# Altium footprint library conn_sw.PCBLIB: 173 footprints (part 3 of 11)
Each footprint in its own frame and in the unit in brackets; x right, y up, seen from the top. Pads: shape width x height; smd on the part's side, far side on the other; paste and mask are expansions set on the pad; w line width, h text height; cw(c..) or ccw(c..) is an arc to the next point about the centre after c.
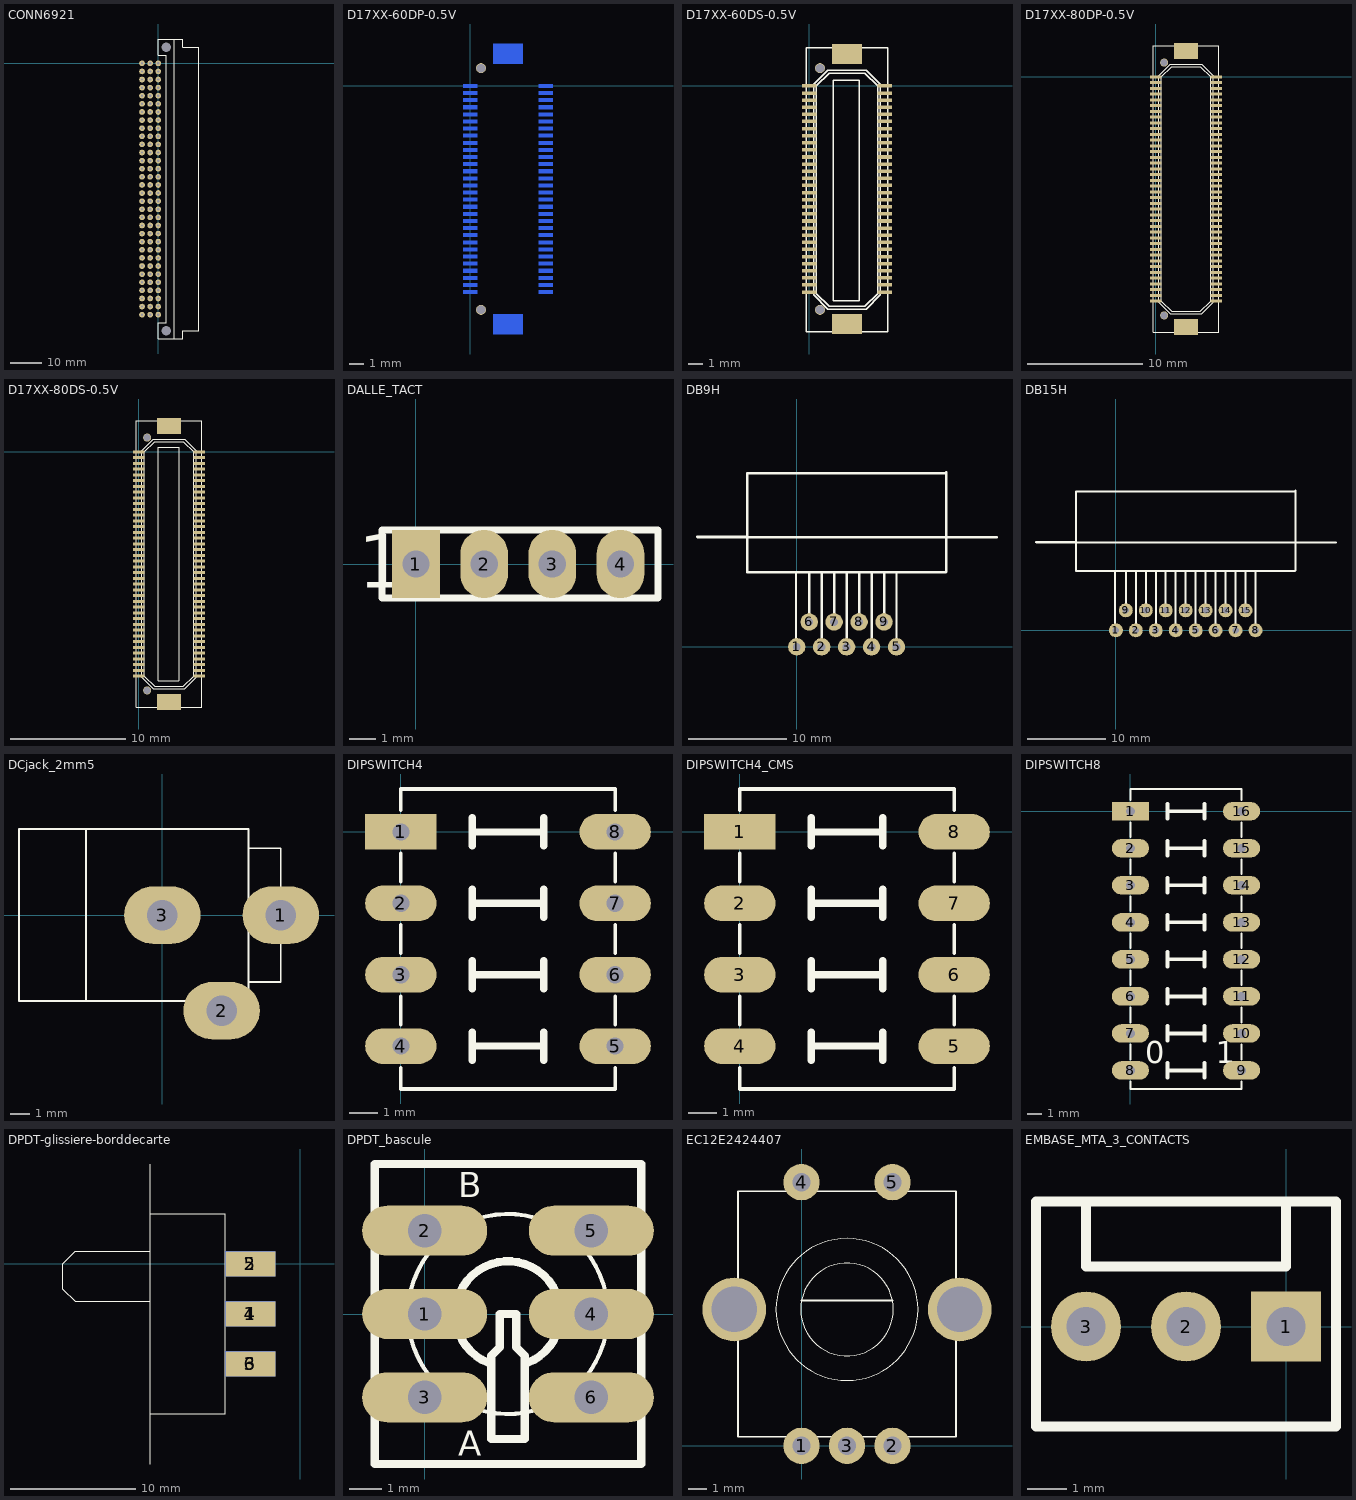
[diagram p2: the footprints below, top view; thin cyan lines are the x and y axes]

## CONN6921 [mil]
pads (98):
  round 70 hole 28: 1A(0,0) 1B(-100,0) 1C(-200,0) 2A(0,-100) 2B(-100,-100) 2C(-200,-100) 3A(0,-200) 3B(-100,-200) 3C(-200,-200) 4A(0,-300) 4B(-100,-300) 4C(-200,-300) 5A(0,-400) 5B(-100,-400) 5C(-200,-400) 6A(0,-500) 6B(-100,-500) 6C(-200,-500) 7A(0,-600) 7B(-100,-600) 7C(-200,-600) 8A(0,-700) 8B(-100,-700) 8C(-200,-700) 9A(0,-800) 9B(-100,-800) 9C(-200,-800) 10A(0,-900) 10B(-100,-900) 10C(-200,-900) 11A(0,-1000) 11B(-100,-1000) 11C(-200,-1000) 12A(0,-1100) 12B(-100,-1100) 12C(-200,-1100) 13A(0,-1200) 13B(-100,-1200) 13C(-200,-1200) 14A(0,-1300) 14B(-100,-1300) 14C(-200,-1300) 15A(0,-1400) 15B(-100,-1400) 15C(-200,-1400) 16A(0,-1500) 16B(-100,-1500) 16C(-200,-1500) 17A(0,-1600) 17B(-100,-1600) 17C(-200,-1600) 18A(0,-1700) 18B(-100,-1700) 18C(-200,-1700) 19A(0,-1800) 19B(-100,-1800) 19C(-200,-1800) 20A(0,-1900) 20B(-100,-1900) 20C(-200,-1900) 21A(0,-2000) 21B(-100,-2000) 21C(-200,-2000) 22A(0,-2100) 22B(-100,-2100) 22C(-200,-2100) 23A(0,-2200) 23B(-100,-2200) 23C(-200,-2200) 24A(0,-2300) 24B(-100,-2300) 24C(-200,-2300) 25A(0,-2400) 25B(-100,-2400) 25C(-200,-2400) 26A(0,-2500) 26B(-100,-2500) 26C(-200,-2500) 27A(0,-2600) 27B(-100,-2600) 27C(-200,-2600) 28A(0,-2700) 28B(-100,-2700) 28C(-200,-2700) 29A(0,-2800) 29B(-100,-2800) 29C(-200,-2800) 30A(0,-2900) 30B(-100,-2900) 30C(-200,-2900) 31A(0,-3000) 31B(-100,-3000) 31C(-200,-3000) 32A(0,-3100) 32B(-100,-3100) 32C(-200,-3100)
  round 70 hole 118: ""(100,-3300) ""(100,200)
Top Overlay:
  lines w10: 200,-3400 300,-3400 300,-3300 500,-3300 500,200 300,200 300,300 200,300 ; 200,-3400 200,-3300 200,300 ; 200,-3400 0,-3400 0,-3200 100,-3200 100,100 0,100 0,300 200,300

## D17XX-60DP-0.5V [mm]
pads (64):
  rect 1x0.25 smd far side: 1(0,0) 2(0,-0.5) 3(0,-1) 4(0,-1.5) 5(0,-2) 6(0,-2.5) 7(0,-3) 8(0,-3.5) 9(0,-4) 10(0,-4.5) 11(0,-5) 12(0,-5.5) 13(0,-6) 14(0,-6.5) 15(0,-7) 16(0,-7.5) 17(0,-8) 18(0,-8.5) 19(0,-9) 20(0,-9.5) 21(0,-10) 22(0,-10.5) 23(0,-11) 24(0,-11.5) 25(0,-12) 26(0,-12.5) 27(0,-13) 28(0,-13.5) 29(0,-14) 30(0,-14.5) 31(5.3,-14.5) 32(5.3,-14) 33(5.3,-13.5) 34(5.3,-13) 35(5.3,-12.5) 36(5.3,-12) 37(5.3,-11.5) 38(5.3,-11) 39(5.3,-10.5) 40(5.3,-10) 41(5.3,-9.5) 42(5.3,-9) 43(5.3,-8.5) 44(5.3,-8) 45(5.3,-7.5) 46(5.3,-7) 47(5.3,-6.5) 48(5.3,-6) 49(5.3,-5.5) 50(5.3,-5) 51(5.3,-4.5) 52(5.3,-4) 53(5.3,-3.5) 54(5.3,-3) 55(5.3,-2.5) 56(5.3,-2) 57(5.3,-1.5) 58(5.3,-1) 59(5.3,-0.5) 60(5.3,0)
  round 0.7 hole 0.6: ""(0.75,-15.75) ""(0.75,1.25)
  rect 2.1x1.4 smd far side: ""(2.65,-16.75) ""(2.65,2.25)
Bottom Overlay:
  lines w0.1: -0.2,-17.3 -0.2,2.7 5.5,2.7 5.5,-17.3 -0.2,-17.3 ; 0.3,-14.7 0.3,0.1 1.3,1.1 4,1.1 5,0.1 5,-14.7 4,-15.7 1.3,-15.7 0.3,-14.7 ; 0.5,-14.6 0.5,0 1.4,0.9 3.9,0.9 4.8,0 4.8,-14.6 3.9,-15.5 1.4,-15.5 0.5,-14.6

## D17XX-60DS-0.5V [mm]
pads (64):
  rect 1x0.25 smd: 1(0,0) 2(0,-0.5) 3(0,-1) 4(0,-1.5) 5(0,-2) 6(0,-2.5) 7(0,-3) 8(0,-3.5) 9(0,-4) 10(0,-4.5) 11(0,-5) 12(0,-5.5) 13(0,-6) 14(0,-6.5) 15(0,-7) 16(0,-7.5) 17(0,-8) 18(0,-8.5) 19(0,-9) 20(0,-9.5) 21(0,-10) 22(0,-10.5) 23(0,-11) 24(0,-11.5) 25(0,-12) 26(0,-12.5) 27(0,-13) 28(0,-13.5) 29(0,-14) 30(0,-14.5) 31(5.3,-14.5) 32(5.3,-14) 33(5.3,-13.5) 34(5.3,-13) 35(5.3,-12.5) 36(5.3,-12) 37(5.3,-11.5) 38(5.3,-11) 39(5.3,-10.5) 40(5.3,-10) 41(5.3,-9.5) 42(5.3,-9) 43(5.3,-8.5) 44(5.3,-8) 45(5.3,-7.5) 46(5.3,-7) 47(5.3,-6.5) 48(5.3,-6) 49(5.3,-5.5) 50(5.3,-5) 51(5.3,-4.5) 52(5.3,-4) 53(5.3,-3.5) 54(5.3,-3) 55(5.3,-2.5) 56(5.3,-2) 57(5.3,-1.5) 58(5.3,-1) 59(5.3,-0.5) 60(5.3,0)
  round 0.7 hole 0.6: ""(0.75,-15.75) ""(0.75,1.25)
  rect 2.1x1.4 smd: ""(2.65,-16.75) ""(2.65,2.25)
Top Overlay:
  lines w0.1: -0.2,-17.3 -0.2,2.7 5.5,2.7 5.5,-17.3 -0.2,-17.3 ; 0.3,-14.7 0.3,0.1 1.3,1.1 4,1.1 5,0.1 5,-14.7 4,-15.7 1.3,-15.7 0.3,-14.7 ; 0.5,-14.6 0.5,0 1.4,0.9 3.9,0.9 4.8,0 4.8,-14.6 3.9,-15.5 1.4,-15.5 0.5,-14.6 ; 1.7,-15.1 1.7,0.4 3.5,0.4 3.5,-15.1 1.7,-15.1

## D17XX-80DP-0.5V [mm]
pads (84):
  rect 1x0.25 smd: 1(0,0) 2(0,-0.5) 3(0,-1) 4(0,-1.5) 5(0,-2) 6(0,-2.5) 7(0,-3) 8(0,-3.5) 9(0,-4) 10(0,-4.5) 11(0,-5) 12(0,-5.5) 13(0,-6) 14(0,-6.5) 15(0,-7) 16(0,-7.5) 17(0,-8) 18(0,-8.5) 19(0,-9) 20(0,-9.5) 21(0,-10) 22(0,-10.5) 23(0,-11) 24(0,-11.5) 25(0,-12) 26(0,-12.5) 27(0,-13) 28(0,-13.5) 29(0,-14) 30(0,-14.5) 31(0,-15) 32(0,-15.5) 33(0,-16) 34(0,-16.5) 35(0,-17) 36(0,-17.5) 37(0,-18) 38(0,-18.5) 39(0,-19) 40(0,-19.5) 41(5.3,-19.5) 42(5.3,-19) 43(5.3,-18.5) 44(5.3,-18) 45(5.3,-17.5) 46(5.3,-17) 47(5.3,-16.5) 48(5.3,-16) 49(5.3,-15.5) 50(5.3,-15) 51(5.3,-14.5) 52(5.3,-14) 53(5.3,-13.5) 54(5.3,-13) 55(5.3,-12.5) 56(5.3,-12) 57(5.3,-11.5) 58(5.3,-11) 59(5.3,-10.5) 60(5.3,-10) 61(5.3,-9.5) 62(5.3,-9) 63(5.3,-8.5) 64(5.3,-8) 65(5.3,-7.5) 66(5.3,-7) 67(5.3,-6.5) 68(5.3,-6) 69(5.3,-5.5) 70(5.3,-5) 71(5.3,-4.5) 72(5.3,-4) 73(5.3,-3.5) 74(5.3,-3) 75(5.3,-2.5) 76(5.3,-2) 77(5.3,-1.5) 78(5.3,-1) 79(5.3,-0.5) 80(5.3,0)
  round 0.7 hole 0.6: ""(0.75,-20.75) ""(0.75,1.25)
  rect 2.1x1.4 smd: ""(2.65,-21.75) ""(2.65,2.25)
Top Overlay:
  lines w0.1: -0.2,-22.2 5.5,-22.2 5.5,2.7 -0.2,2.7 -0.2,-22.2 ; 0.3,-19.6 1.3,-20.6 4,-20.6 5,-19.6 5,0.1 4,1.1 1.3,1.1 0.3,0.1 0.3,-19.6 ; 0.5,-19.5 1.4,-20.4 3.9,-20.4 4.8,-19.5 4.8,0 3.9,0.9 1.4,0.9 0.5,0 0.5,-19.5

## D17XX-80DS-0.5V [mm]
pads (84):
  rect 1x0.25 smd: 1(0,0) 2(0,-0.5) 3(0,-1) 4(0,-1.5) 5(0,-2) 6(0,-2.5) 7(0,-3) 8(0,-3.5) 9(0,-4) 10(0,-4.5) 11(0,-5) 12(0,-5.5) 13(0,-6) 14(0,-6.5) 15(0,-7) 16(0,-7.5) 17(0,-8) 18(0,-8.5) 19(0,-9) 20(0,-9.5) 21(0,-10) 22(0,-10.5) 23(0,-11) 24(0,-11.5) 25(0,-12) 26(0,-12.5) 27(0,-13) 28(0,-13.5) 29(0,-14) 30(0,-14.5) 31(0,-15) 32(0,-15.5) 33(0,-16) 34(0,-16.5) 35(0,-17) 36(0,-17.5) 37(0,-18) 38(0,-18.5) 39(0,-19) 40(0,-19.5) 41(5.3,-19.5) 42(5.3,-19) 43(5.3,-18.5) 44(5.3,-18) 45(5.3,-17.5) 46(5.3,-17) 47(5.3,-16.5) 48(5.3,-16) 49(5.3,-15.5) 50(5.3,-15) 51(5.3,-14.5) 52(5.3,-14) 53(5.3,-13.5) 54(5.3,-13) 55(5.3,-12.5) 56(5.3,-12) 57(5.3,-11.5) 58(5.3,-11) 59(5.3,-10.5) 60(5.3,-10) 61(5.3,-9.5) 62(5.3,-9) 63(5.3,-8.5) 64(5.3,-8) 65(5.3,-7.5) 66(5.3,-7) 67(5.3,-6.5) 68(5.3,-6) 69(5.3,-5.5) 70(5.3,-5) 71(5.3,-4.5) 72(5.3,-4) 73(5.3,-3.5) 74(5.3,-3) 75(5.3,-2.5) 76(5.3,-2) 77(5.3,-1.5) 78(5.3,-1) 79(5.3,-0.5) 80(5.3,0)
  round 0.7 hole 0.6: ""(0.75,-20.75) ""(0.75,1.25)
  rect 2.1x1.4 smd: ""(2.65,-21.75) ""(2.65,2.25)
Top Overlay:
  lines w0.1: -0.2,-22.2 -0.2,2.7 5.5,2.7 5.5,-22.2 -0.2,-22.2 ; 0.3,-19.6 0.3,0.1 1.3,1.1 4,1.1 5,0.1 5,-19.6 4,-20.6 1.3,-20.6 0.3,-19.6 ; 0.5,-19.5 0.5,0 1.4,0.9 3.9,0.9 4.8,0 4.8,-19.5 3.9,-20.4 1.4,-20.4 0.5,-19.5 ; 1.7,-19.9 1.7,0.4 3.5,0.4 3.5,-19.9 1.7,-19.9

## DALLE_TACT [mil]
pads (4):
  rect 70x100 hole 40: 1(0,0)
  oval 70x100 hole 40: 2(100,0) 3(200,0) 4(300,0)
Top Overlay:
  lines w10: 30,-50 355,-50 355,50 -50,50 -50,-50 40,-50
  text "1" at -85,-35 h78.74

## DB9H [mil]
pads (9):
  round 70 hole 32: 1(0,0) 2(100,0) 3(200,0) 4(300,0) 5(400,0) 6(50,100) 7(150,100) 8(250,100) 9(350,100)
Top Overlay:
  lines w10: -199,442 -400,442 -397,439 803,439 ; -101,298 499,298 598,298 ; -70,298 -199,298 -199,696 597,696 ; -3,298 -3,3 0,0 ; 50,100 50,296 ; 100,0 100,298 ; 150,100 150,298 ; 200,0 200,298 ; 250,100 250,298 ; 300,0 300,298 ; 350,100 350,298 ; 400,0 400,298 ; 600,300 600,699

## DB15H [mil]
pads (15):
  round 70 hole 32: 1(0,0) 2(100,0) 3(200,0) 4(300,0) 5(400,0) 6(500,0) 7(600,0) 8(700,0) 9(50,100) 10(150,100) 11(250,100) 12(350,100) 13(450,100) 14(550,100) 15(650,100)
Top Overlay:
  lines w10: -199,442 -400,442 -397,439 1103,439 ; -101,298 799,298 898,298 900,300 900,699 897,696 -199,696 -199,298 -70,298 ; -3,298 -3,3 0,0 ; 50,100 50,296 ; 100,0 100,298 ; 150,100 150,298 ; 200,0 200,298 ; 250,100 250,298 ; 300,0 300,298 ; 350,100 350,298 ; 400,0 400,298 ; 450,100 450,298 ; 500,0 500,298 ; 550,100 550,298 ; 600,0 600,298 ; 650,100 650,298 ; 700,0 700,298

## DCjack_2mm5 [mm]
pads (3):
  oval 4x3 hole 1.6: 1(6.2,0) 2(3.1,-5) 3(0,0)
Top Overlay:
  lines w0.1: -4,-4.5 -4,4.5 ; 4.5,-3.5 6.2,-3.5 6.2,2.4 6.2,3.5 4.5,3.5 ; -7.5,-4.5 -7.5,4.5 4.5,4.5 4.5,-4.5 -7.5,-4.5

## DIPSWITCH4 [mil]
pads (8):
  rect 100x50 hole 24: 1(0,0)
  oval 100x50 hole 24: 2(0,-100) 3(0,-200) 4(0,-300) 5(300,-300) 6(300,-200) 7(300,-100) 8(300,0)
Top Overlay:
  lines w5: 0,-70 0,-30 ; 0,30 0,60 300,60 300,30 ; 300,-70 300,-30 ; 0,-360 0,-330 0,-360 ; 0,-360 300,-360 ; 300,-360 300,-330 300,-360 ; 0,-270 0,-230 0,-270 ; 0,-170 0,-130 0,-170 ; 300,-270 300,-230 300,-270 ; 300,-170 300,-130 300,-170
  lines w10: 100,-20 100,20 ; 100,0 200,0 ; 200,-20 200,20 ; 100,-320 100,-280 100,-320 ; 100,-300 200,-300 100,-300 ; 100,-220 100,-180 100,-220 ; 100,-200 200,-200 100,-200 ; 100,-120 100,-80 100,-120 ; 100,-100 200,-100 100,-100 ; 200,-320 200,-280 200,-320 ; 200,-220 200,-180 200,-220 ; 200,-120 200,-80 200,-120

## DIPSWITCH4_CMS [mil]
pads (8):
  rect 100x50 smd: 1(0,0)
  oval 100x50 smd: 2(0,-100) 3(0,-200) 4(0,-300) 5(300,-300) 6(300,-200) 7(300,-100) 8(300,0)
Top Overlay:
  lines w5: 0,-70 0,-30 ; 0,30 0,60 300,60 300,30 ; 300,-70 300,-30 ; 0,-360 0,-330 0,-360 ; 0,-360 300,-360 ; 300,-360 300,-330 300,-360 ; 0,-270 0,-230 0,-270 ; 0,-170 0,-130 0,-170 ; 300,-270 300,-230 300,-270 ; 300,-170 300,-130 300,-170
  lines w10: 100,-20 100,20 ; 100,0 200,0 ; 200,-20 200,20 ; 100,-320 100,-280 100,-320 ; 100,-300 200,-300 100,-300 ; 100,-220 100,-180 100,-220 ; 100,-200 200,-200 100,-200 ; 100,-120 100,-80 100,-120 ; 100,-100 200,-100 100,-100 ; 200,-320 200,-280 200,-320 ; 200,-220 200,-180 200,-220 ; 200,-120 200,-80 200,-120

## DIPSWITCH8 [mil]
pads (16):
  rect 100x50 hole 24: 1(0,0)
  oval 100x50 hole 24: 2(0,-100) 3(0,-200) 4(0,-300) 5(0,-400) 6(0,-500) 7(0,-600) 8(0,-700) 9(300,-700) 10(300,-600) 11(300,-500) 12(300,-400) 13(300,-300) 14(300,-200) 15(300,-100) 16(300,0)
Top Overlay:
  lines w5: 0,-730 0,-750 300,-750 300,-730 ; 0,-670 0,-630 ; 0,-570 0,-530 ; 0,-470 0,-430 ; 0,-70 0,-30 ; 0,30 0,60 300,60 300,30 ; 300,-670 300,-630 ; 300,-570 300,-530 ; 300,-470 300,-430 ; 300,-70 300,-30 ; 0,-370 0,-330 0,-370 ; 0,-270 0,-230 0,-270 ; 0,-170 0,-130 0,-170 ; 300,-370 300,-330 300,-370 ; 300,-270 300,-230 300,-270 ; 300,-170 300,-130 300,-170
  lines w10: 100,-720 100,-680 ; 100,-700 200,-700 ; 100,-620 100,-580 ; 100,-600 200,-600 ; 100,-520 100,-480 ; 100,-500 200,-500 ; 100,-20 100,20 ; 100,0 200,0 ; 200,-720 200,-680 ; 200,-620 200,-580 ; 200,-520 200,-480 ; 200,-20 200,20 ; 100,-420 100,-380 100,-420 ; 100,-400 200,-400 100,-400 ; 100,-320 100,-280 100,-320 ; 100,-300 200,-300 100,-300 ; 100,-220 100,-180 100,-220 ; 100,-200 200,-200 100,-200 ; 100,-120 100,-80 100,-120 ; 100,-100 200,-100 100,-100 ; 200,-420 200,-380 200,-420 ; 200,-320 200,-280 200,-320 ; 200,-220 200,-180 200,-220 ; 200,-120 200,-80 200,-120
  text "0" at 40,-680 h60
  text "1" at 230,-680 h60

## DPDT-glissiere-borddecarte [mm]
pads (6):
  rect 4x2 smd: 1(-4,-4) 2(-4,0) 3(-4,-8)
  rect 4x2 smd far side: 4(-4,-4) 5(-4,0) 6(-4,-8)
Top Overlay:
  lines w0.1: -12,-16 -12,8 ; -12,-12 -6,-12 -6,4 -12,4 ; -12,-3 -18,-3 ; -12,1 -18,1 -19,0 -19,-2 -18,-3 ; -18,-3 -18,-3

## DPDT_bascule [mil]
pads (6):
  oval 150x60 hole 40: 1(0,0) 2(0,100) 3(0,-100) 4(200,0) 5(200,100) 6(200,-100)
Top Overlay:
  circle w5: c100,0 r120
  lines w10: 76.51,-58.72 cw(c100,0) 123.49,-58.72 ; -60,-180 260,-180 260,180 -60,180 -60,-180 ; 80,-150 120,-150 120,-50 110,-40 110,0 90,0 90,-40 80,-50 80,-150
  text "B" at 40,140 h30
  text "A" at 40,-170 h30

## EC12E2424407 [mm]
pads (7):
  round 2 hole 1: 1(0,0) 2(5,0) 3(2.5,0) 4(0,14.5) 5(5,14.5)
  round 3.5 hole 2.5: " "(-3.7,7.5) ""(8.7,7.5)
Top Overlay:
  circle w0.051: c2.5,7.5 r3.905
  circle w0.051: c2.5,7.5 r2.55
  lines w0.1: 0,8 5,8 ; -3.5,0.5 -3.5,14 8.5,14 8.5,0.5 -3.5,0.5

## EMBASE_MTA_3_CONTACTS [mil]
pads (3):
  rect 70x70 hole 39.37: 1(0,0)
  round 70 hole 39.37: 2(-100,0) 3(-200,0)
Top Overlay:
  lines w10: -200,125 -200,60 0,60 0,125 ; -250,-100 -250,125 50,125 50,-100 -250,-100